# Altium footprint library Connector#csv.PcbLib: 20 footprints (part 2 of 2)
Each footprint in its own frame and in the unit in brackets; x right, y up, seen from the top. Pads: shape width x height; smd on the part's side, far side on the other; paste and mask are expansions set on the pad; w line width, h text height; cw(c..) or ccw(c..) is an arc to the next point about the centre after c.
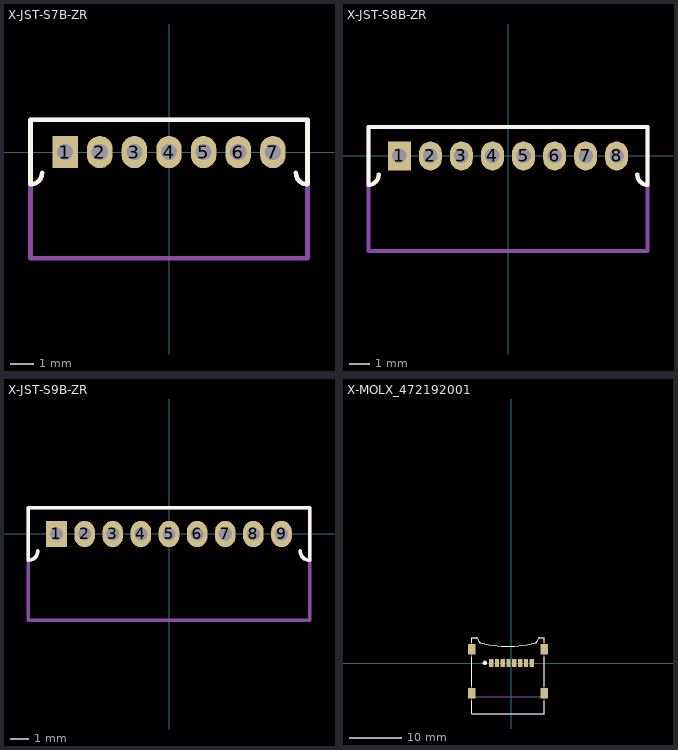
[diagram p1: the footprints below, top view; thin cyan lines are the x and y axes]

## X-JST-S7B-ZR [mm] "Header, 7 pos, 1.5mm pitch, Side Entry, TH"
height 3.7
pads (7):
  rect 1.1x1.4 hole 0.7: 1(-4.5,0)
  oval 1.1x1.4 hole 0.7: 2(-3,0) 3(-1.5,0) 4(0,0) 5(1.5,0) 6(3,0) 7(4.5,0)
Top Overlay:
  lines w0.2: -5.5,-0.9 cw(c-6,-0.9) -6,-1.4 -6,1.4 6,1.4 6,-1.4 cw(c6,-0.9) 5.5,-0.9
Bottom Overlay:
  circle w0.4: c-5.85,0.65 r0.25
  lines w0.2: -5.85,1 4.685,1 cw(c4.685,0.273) 5.412,0.273
Mechanical 13:
  lines w0.2: -6,-4.6 6,-4.6 6,1.4 -6,1.4 -6,-4.6
3D body: height 3.7, standoff -2.7, extent -6,-4.6 6,1.4

## X-JST-S8B-ZR [mm] "Header, 8 pos, 1.5mm pitch, Side Entry, TH"
height 3.7
pads (8):
  rect 1.1x1.4 hole 0.7: 1(-5.25,0)
  oval 1.1x1.4 hole 0.7: 2(-3.75,0) 3(-2.25,0) 4(-0.75,0) 5(0.75,0) 6(2.25,0) 7(3.75,0) 8(5.25,0)
Top Overlay:
  lines w0.2: -6.25,-0.9 cw(c-6.75,-0.9) -6.75,-1.4 -6.75,1.4 6.75,1.4 6.75,-1.4 cw(c6.75,-0.9) 6.25,-0.9
Bottom Overlay:
  circle w0.4: c-6.6,0.65 r0.25
  lines w0.2: -6.6,1 5.45,1 ; 5.435,1 cw(c5.435,0.273) 6.162,0.273
Mechanical 13:
  lines w0.2: -6.75,-4.6 -6.75,1.4 6.75,1.4 6.75,-4.6 -6.75,-4.6
3D body: height 3.7, standoff -2.7, extent -6.75,-4.6 6.75,1.4

## X-JST-S9B-ZR [mm] "Header, 9 pos, 1.5mm pitch, Side Entry, TH"
height 3.7
pads (9):
  rect 1.1x1.4 hole 0.7: 1(-6,0)
  oval 1.1x1.4 hole 0.7: 2(-4.5,0) 3(-3,0) 4(-1.5,0) 5(0,0) 6(1.5,0) 7(3,0) 8(4.5,0) 9(6,0)
Top Overlay:
  lines w0.2: -7,-0.9 cw(c-7.5,-0.9) -7.5,-1.4 -7.5,1.4 7.5,1.4 7.5,-1.4 cw(c7.5,-0.9) 7,-0.9
Bottom Overlay:
  circle w0.4: c-7.35,0.65 r0.25
  lines w0.2: -7.35,1 6.15,1 ; 6.185,1 cw(c6.185,0.273) 6.912,0.273
Mechanical 13:
  lines w0.2: -7.5,-4.6 -7.5,1.4 7.5,1.4 7.5,-4.6 -7.5,-4.6
3D body: height 3.7, standoff -2.7, extent -7.5,-4.6 7.5,1.4

## X-MOLX_472192001 [mm] "TFR Reader Hinge Type (Micro SD Card)"
height 1.9
pads (12):
  rect 0.8x1.5 smd: 1(-3.85,0) 2(-2.75,0) 3(-1.65,0) 4(-0.55,0) 5(0.55,0) 6(1.65,0) 7(2.75,0) 8(3.85,0)
  rect 1.45x2 smd: MOUNT1(6.23,-5.7) MOUNT2(6.23,2.6) MOUNT3(-7.52,2.6) MOUNT4(-7.52,-5.7)
Top Overlay:
  circle w0.4: c-5.05,0.05 r0.2
  lines w0.2: -7.52,-7.1 -7.52,-9.65 6.23,-9.65 6.23,-7.1 ; -7.52,-4.35 -7.52,1.25 ; -7.52,3.9 -7.52,4.85 -6.661,4.85 ; -6.679,4.85 cw(c-6.669,4.64) -6.472,4.714 -6.159,4.1 ; -6.159,4.1 ccw(c-5.634,4.375) -5.84,3.819 ccw(c-0.654,25.217) 4.531,3.819 ccw(c4.325,4.375) 4.85,4.1 5.163,4.714 cw(c5.36,4.64) 5.371,4.85 6.23,4.85 6.23,3.9 ; 6.23,-4.35 6.23,1.25
Mechanical 13:
  lines w0.1: -7.52,-6.35 6.23,-6.35 ; -7.52,4.85 -7.52,-9.65 6.23,-9.65 6.23,2.6 6.23,4.85
  lines w0.2: -7.52,4.85 -6.661,4.85 ; -6.679,4.85 cw(c-6.669,4.64) -6.472,4.714 -6.159,4.1 ; -6.159,4.1 ccw(c-5.634,4.375) -5.84,3.819 ccw(c-0.654,25.217) 4.531,3.819 ccw(c4.325,4.375) 4.85,4.1 5.163,4.714 cw(c5.36,4.64) 5.371,4.85 6.23,4.85
3D body: height 1.87, standoff -0.03, extent -8,-9.65 6.6,4.85